# EAGLE library part IRS2108 (library hotaru)
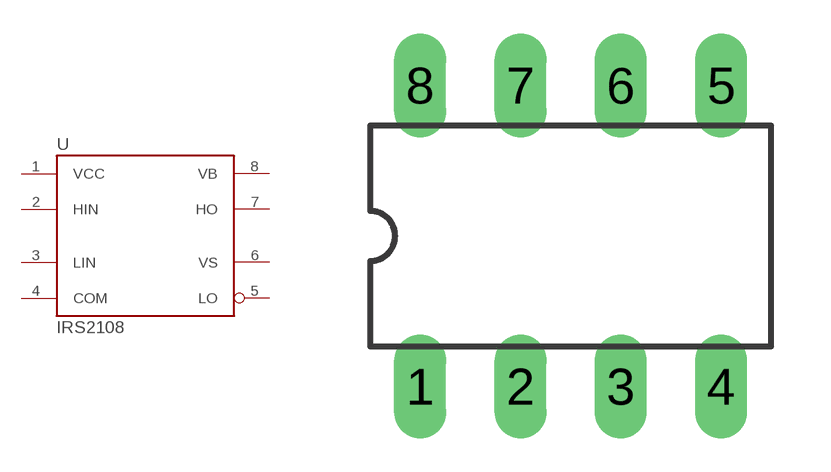
[diagram p0: symbol with the pads of DIL08; footprint DIL08]

Designator prefix -

## IRS2108  [DIL08]
1  VCC  pwr
2  HIN
3  LIN
4  COM  pwr
5  LO  in
6  VS
7  HO
8  VB

## Footprint DIL08 (pad centres in mm)
drill 0.813 long: 1 2.54,0; 2 5.08,0; 3 7.62,0; 4 10.16,0; 5 10.16,7.62; 6 7.62,7.62; 7 5.08,7.62; 8 2.54,7.62